# EAGLE library part F3188 (library module-wireless)
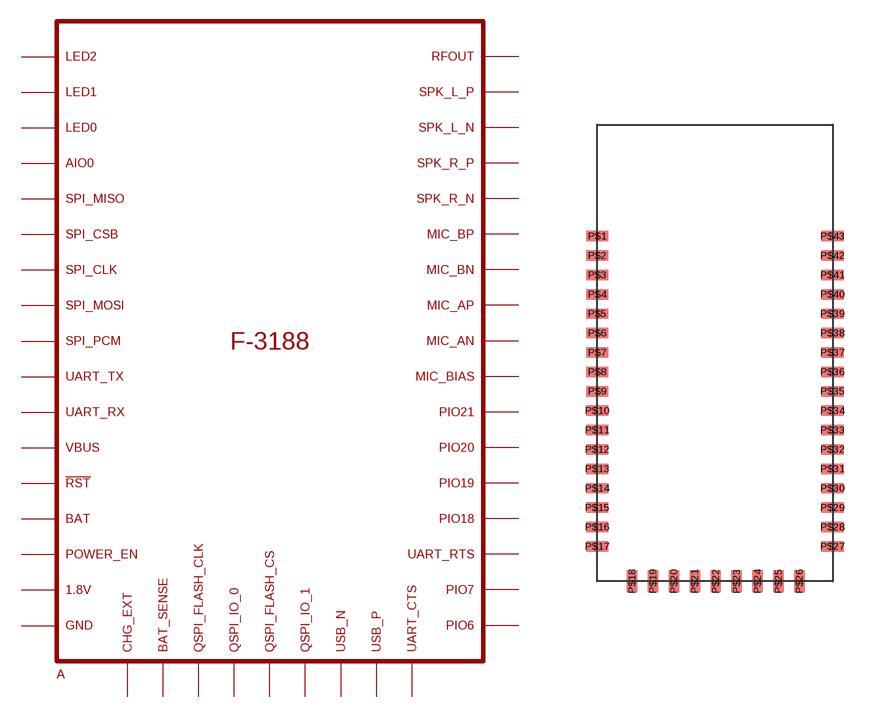
[diagram p0: symbol with the pads of F3188; footprint F3188]

Designator prefix A

## F3188  [F3188]
P$1  LED2
P$2  LED1
P$3  LED0
P$4  AIO0
P$5  SPI_MISO/PIO3
P$6  SPI_CSB/PIO4
P$7  SPI_CLK/PIO5
P$8  SPI_MOSI/PIO2
P$9  SPI_PCM
P$10  UART_TX/PIO1
P$11  UART_RX/PIO0
P$12  VBUS  pwr
P$13  RST#
P$14  BAT  pwr
P$15  POWER_EN
P$16  VBUS_1.8V  pwr
P$17  GND  pwr
P$18  CHG_EXT
P$19  BAT_SENSE
P$20  PIO10/QSPI_FLASH_CLK
P$21  PIO11/QSPI_IO_0
P$22  PIO12/QSPI_FLASH_CS
P$23  PIO13/QSPI_IO_1
P$24  USB_N
P$25  USB_P
P$26  PIO9/UART_CTS
P$27  PIO6
P$28  PIO7
P$29  PIO8/UART_RTS
P$30  PIO18
P$31  PIO19
P$32  PIO20
P$33  PIO21
P$34  MIC_BIAS
P$35  MIC_AN
P$36  MIC_AP
P$37  MIC_BN
P$38  MIC_BP
P$39  SPK_R_N1
P$40  SPK_R_P1
P$41  SPK_L_N1
P$42  SPK_L_P1
P$43  RFOUT

## Footprint F3188 (pad centres in mm)
smd 1.27 x 0.6: P$1 -6.75,-6.4; P$2 -6.75,-7.513; P$3 -6.75,-8.625; P$4 -6.75,-9.738; P$5 -6.75,-10.85; P$6 -6.75,-11.963; P$7 -6.75,-13.075; P$8 -6.75,-14.188; P$9 -6.75,-15.3; P$10 -6.75,-16.413; P$11 -6.75,-17.525; P$12 -6.75,-18.637; P$13 -6.75,-19.75; P$14 -6.75,-20.863; P$15 -6.75,-21.975; P$16 -6.75,-23.087; P$17 -6.75,-24.2; P$27 6.75,-24.2; P$28 6.75,-23.087; P$29 6.75,-21.975; P$30 6.75,-20.863; P$31 6.75,-19.75; P$32 6.75,-18.637; P$33 6.75,-17.525; P$34 6.75,-16.413; P$35 6.75,-15.3; P$36 6.75,-14.188; P$37 6.75,-13.075; P$38 6.75,-11.963; P$39 6.75,-10.85; P$40 6.75,-9.738; P$41 6.75,-8.625; P$42 6.75,-7.513; P$43 6.75,-6.4
smd 0.6 x 1.27: P$18 -4.75,-26.2; P$19 -3.55,-26.2; P$20 -2.35,-26.2; P$21 -1.15,-26.2; P$22 0.05,-26.2; P$23 1.25,-26.2; P$24 2.45,-26.2; P$25 3.65,-26.2; P$26 4.85,-26.2